# Altium footprint library QG-2832TSWFG04.PcbLib: 1 footprints
Each footprint in its own frame and in the unit in brackets; x right, y up, seen from the top. Pads: shape width x height; smd on the part's side, far side on the other; paste and mask are expansions set on the pad; w line width, h text height; cw(c..) or ccw(c..) is an arc to the next point about the centre after c.
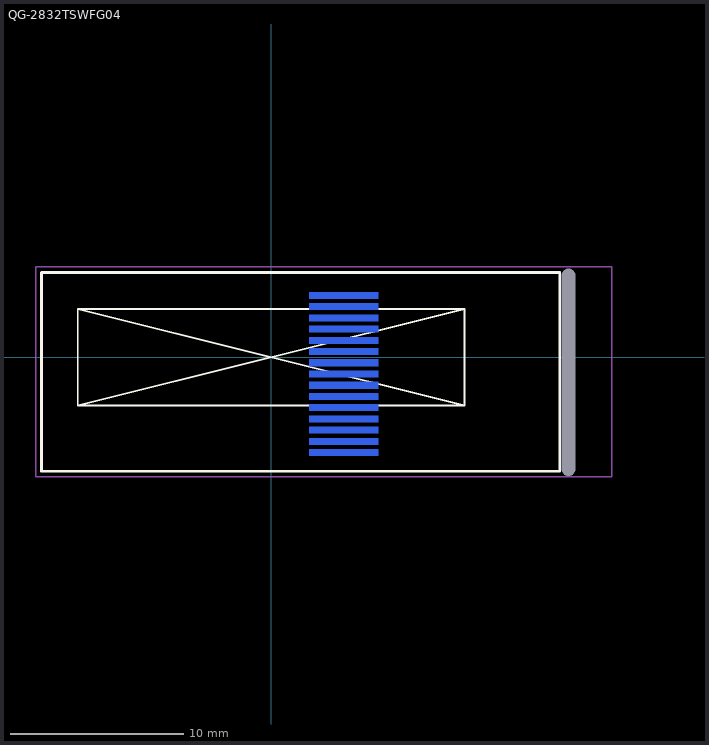
[diagram p0: the footprint, top view; thin cyan lines are the x and y axes]

## QG-2832TSWFG04 [mm] "Pitch0.65mm Body30X11.5mm High1.2mm"
height 1.2
pads (16):
  round 0 hole 0.8 slot 12 at 90 deg unplated: 0(17.199,-0.865)
  rect 4x0.38 smd far side: 1(4.199,-5.515) 2(4.199,-4.865) 3(4.199,-4.215) 4(4.199,-3.565) 5(4.199,-2.915) 6(4.199,-2.265) 7(4.199,-1.615) 8(4.199,-0.965) 9(4.199,-0.315) 10(4.199,0.335) 11(4.199,0.985) 12(4.199,1.635) 13(4.199,2.285) 14(4.199,2.935) 15(4.199,3.585)
Top Overlay:
  lines w0.1: -11.201,-2.784 11.183,2.8 ; -11.201,-2.784 -11.201,2.8 ; -11.201,-2.784 11.183,-2.784 ; -11.201,2.8 11.183,-2.784 ; -11.201,2.8 11.183,2.8 ; 11.183,-2.784 11.183,2.8
  lines w0.152: -13.301,4.9 -13.301,-6.59 16.699,-6.59 16.699,4.9 ; -13.301,4.91 16.699,4.91
Bottom Overlay:
  lines w0.1: 4.234,-6.172 11.676,-6.173 ccw(c11.676,-4.903) 12.946,-4.903 12.946,0.94 ccw(c12.114,0.94) 12.114,1.772 cw(c12.114,3.042) 10.844,3.042 10.844,3.407 ccw(c9.97,3.407) 9.97,4.281 4.259,4.281
  text "1" at 3.929,-5.994 h1
  text "15" at 3.929,4.902 h1
Mechanical 13:
  lines w0.1: -13.301,4.9 -13.301,-6.59 16.699,-6.59 16.699,4.9 ; -13.301,4.91 16.699,4.91
Mechanical 15:
  lines w0.1: -13.627,-6.916 19.699,-6.916 19.699,5.235 -13.627,5.235 -13.627,-6.916
3D body: height 1.12, standoff -1.37, extent -13.352,-6.533 18.154,5.164